# Altium schematic symbol library con-kycon.SCHLIB: 6 symbols
Pins are listed as number, name and electrical type; pins without a type are passive.

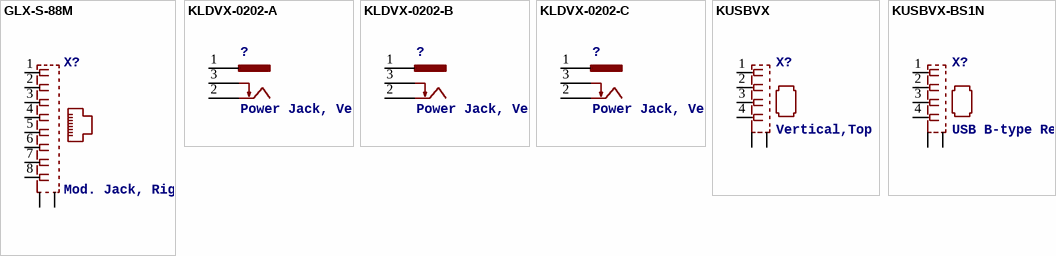
[diagram p0: symbols GLX-S-88M to KUSBVX-BS1N]

## GLX-S-88M
designator X?, comment Mod. Jack, Right Angle, 8 posiotion, 8 contatcs RJ45   Source: GLX-S-88M.pdf
OC_FARNELL: unknown; OC_NEWARK: unknown
footprint GLX-S-88M
pins: 1, 2, 3, 4, 5, 6, 7, 8, S1, S2

## KLDVX-0202-A
designator ?, comment Power Jack, Vertical, PCB Mount, 2.0 mm, 2.5 mm, 3.0 mm Center Pin   Source: KLDVX-0202x.pdf
OC_FARNELL: unknown; OC_NEWARK: unknown
footprint KLDVX-0202-A
pins: 1, 1@1, 2, 2@1, 3, 3@1

## KLDVX-0202-B
designator ?, comment Power Jack, Vertical, PCB Mount, 2.0 mm, 2.5 mm, 3.0 mm Center Pin   Source: KLDVX-0202x.pdf
OC_FARNELL: unknown; OC_NEWARK: unknown
footprint KLDVX-0202-B
pins: 1, 1@1, 2, 2@1, 3, 3@1

## KLDVX-0202-C
designator ?, comment Power Jack, Vertical, PCB Mount, 2.0 mm, 2.5 mm, 3.0 mm Center Pin   Source: KLDVX-0202x.pdf
OC_FARNELL: unknown; OC_NEWARK: unknown
footprint KLDVX-0202-C
pins: 1, 1@1, 2, 2@1, 3, 3@1

## KUSBVX
designator X?, comment Vertical,Top Entry Universal Serial Bus Connector KUSBVX Series   Source: KYCON Sibalco USB vertical socket KUSBV.pdf
footprint KUSBVX
pins: 1, 2, 3, 4, M1 S1, M2 S2

## KUSBVX-BS1N
designator X?, comment USB B-type Receptacle Vertical, 4 Position, Through Hole   Source: Sibalco Kycon KUSBVX-BS1N-xxx.pdf
footprint KUSBVX-BS1N
pins: 1, 2, 3, 4, M1 S1, M2 S2